# EAGLE library part LP2951 (library vreg-linear)
100 mA, Low Power Low Dropout Voltage Regulator Source: http://www.onsemi.com/pub/Collateral/LP2950-D.PDF
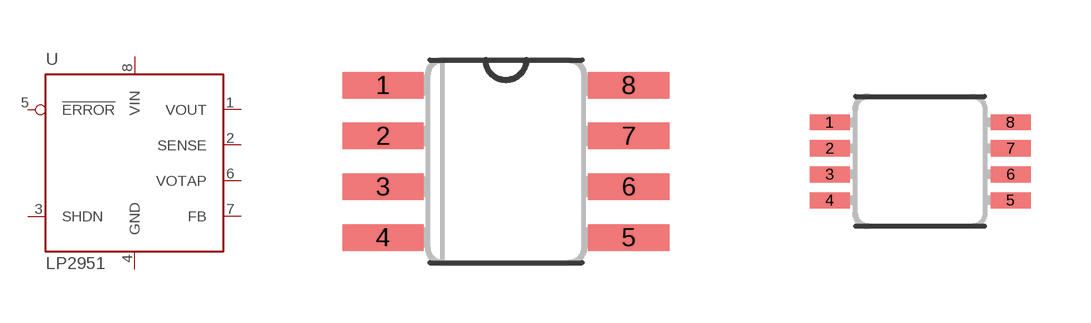
[diagram p0: symbol with the pads of SOIC8; footprints SOIC8, MSOP08]

Designator prefix U

## LP2951ACD, LP2951CD  [SOIC8]
1  VOUT  in
2  SENSE  in
3  SHDN  in
4  GND  pwr
5  !ERROR  out
6  VOTAP  pas
7  FB  in
8  VIN  in

## LP2951ACDM (P1I: o), LP2951CDM (P1I: o)  [MSOP08]
Pads as for SOIC8

## Footprint SOIC8 (pad centres in mm)
Small Outline Package
smd 2.032 x 0.66: 1 -3.073,1.905; 2 -3.073,0.635; 3 -3.073,-0.635; 4 -3.073,-1.905; 5 3.073,-1.905; 6 3.073,-0.635; 7 3.073,0.635; 8 3.073,1.905

## Footprint MSOP08 (pad centres in mm)
8-Lead micro SO (RM-8) Source: http://www.analog.com/UploadedFiles/Data_Sheets/703465986AD8611_2_0.pdf
smd 1 x 0.4: 1 -2.263,0.976; 2 -2.263,0.326; 3 -2.263,-0.324; 4 -2.263,-0.974; 5 2.262,-0.974; 6 2.262,-0.324; 7 2.262,0.326; 8 2.262,0.976